# Altium schematic symbol library Switchcraft_113E.SchLib: 1 symbol
Pins are listed as number, name and electrical type; pins without a type are passive.

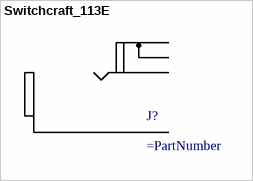
[diagram p0: symbol Switchcraft_113E]

## Switchcraft_113E
designator J?
pins: SLV, T, T, TS